# EAGLE library part 6P_ZIF_59453-061110EDHLF (library CYCFI_Con)
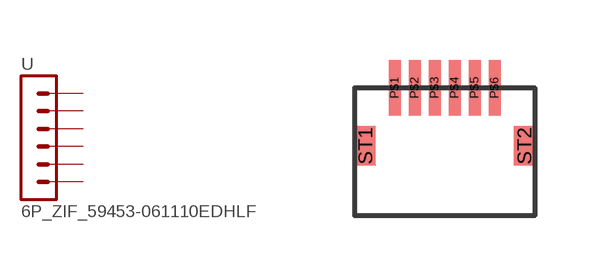
[diagram p19: symbol with the pads of 6P_ZIF_59453-061110EDHLF; footprint 6P_ZIF_59453-061110EDHLF]

Designator prefix -

## 6P_ZIF_59453-061110EDHLF  [6P_ZIF_59453-061110EDHLF]
P$1  1  pas
P$2  2  pas
P$3  3  pas
P$4  4  pas
P$5  5  pas
P$6  6  pas

## Footprint 6P_ZIF_59453-061110EDHLF (pad centres in mm)
smd 0.3 x 1.4: P$1 -1.25,1.6; P$2 -0.75,1.6; P$3 -0.25,1.6; P$4 0.25,1.6; P$5 0.75,1.6; P$6 1.25,1.6
smd 0.52 x 1: ST1 -1.99,0.15; ST2 1.99,0.15